# Altium footprint library TE USB-C 2129691-1.PCBLIB: 1 footprints
Each footprint in its own frame and in the unit in brackets; x right, y up, seen from the top. Pads: shape width x height; smd on the part's side, far side on the other; paste and mask are expansions set on the pad; w line width, h text height; cw(c..) or ccw(c..) is an arc to the next point about the centre after c.
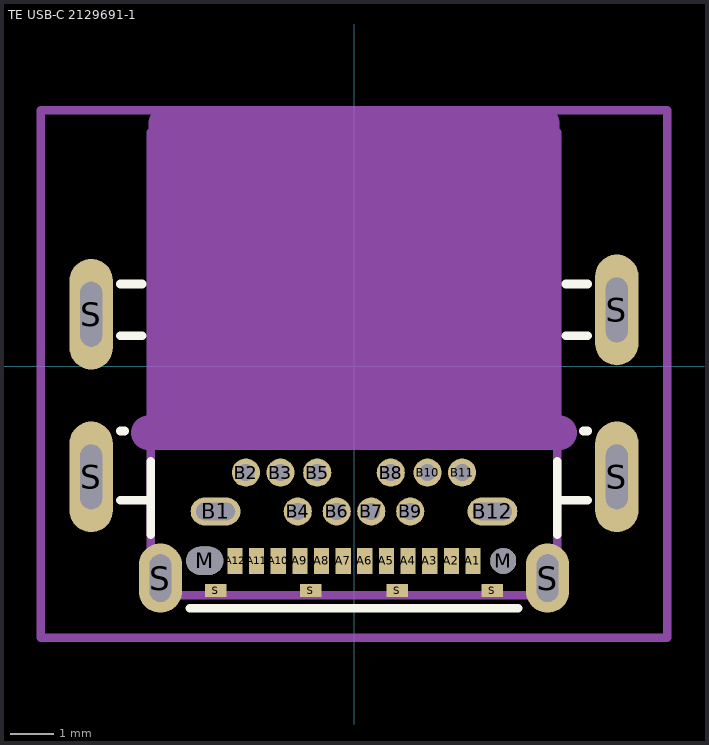
[diagram p0: the footprint, top view; thin cyan lines are the x and y axes]

## TE USB-C 2129691-1 [mm]
height 2.27
pads (36):
  rect 0.35x0.6 smd: A1(2.75,-4.5) A2(2.25,-4.5) A3(1.75,-4.5) A4(1.25,-4.5) A5(0.75,-4.5) A6(0.25,-4.5) A7(-0.25,-4.5) A8(-0.75,-4.5) A9(-1.25,-4.5) A10(-1.75,-4.5) A11(-2.25,-4.5) A12(-2.75,-4.5)
  oval 1.15x0.65 hole 0.4 slot 0.9 at 0 deg: B1(-3.2,-3.36) B12(3.2,-3.36)
  round 0.65 hole 0.4: B2(-2.5,-2.46) B3(-1.7,-2.46) B4(-1.3,-3.36) B5(-0.85,-2.46) B6(-0.4,-3.36) B7(0.4,-3.36) B8(0.85,-2.46) B9(1.3,-3.36) B10(1.7,-2.46) B11(2.5,-2.46)
  oval 0.85x0.65 hole 0.65 slot 0.85 at 0 deg unplated mask+0.102: M(-3.45,-4.5)
  round 0.6 hole 0.6 unplated mask+0.102: M(3.45,-4.5)
  oval 1x2.56 hole 0.5 slot 1.5 at 90 deg: S(-6.075,-2.56) S(-6.075,1.2) S(6.075,-2.56) S(6.075,1.3)
  oval 1x1.6 hole 0.5 slot 1.1 at 90 deg: S(-4.475,-4.9) S(4.475,-4.9)
  rect 0.5x0.3 smd: S(-3.2,-5.19) S(-1,-5.19) S(1,-5.19) S(3.2,-5.19)
Top Overlay:
  lines w0.2: -5.4,-3.1 -4.7,-3.1 ; -5.4,-1.5 -5.3,-1.5 ; -5.4,0.7 -4.9,0.7 ; -5.4,1.9 -4.9,1.9 ; -4.7,-3.9 -4.7,-2.2 ; -3.8,-5.6 0,-5.6 3.8,-5.6 ; 4.7,-3.9 4.7,-2.2 ; 4.7,-3.1 5.4,-3.1 ; 4.9,0.7 5.4,0.7 ; 4.9,1.9 5.4,1.9 ; 5.3,-1.5 5.4,-1.5
Mechanical 1:
  lines w0.2: -4.7,-5.3 -4.7,5.4 0,5.4 4.7,5.4 4.7,-5.3 0,-5.3 -4.7,-5.3
Mechanical 15:
  lines w0.2: -0.635,0 0.635,0 ; 0,-0.635 0,0.635 ; -7.239,-6.278 -7.239,5.914 0,5.914 7.239,5.914 7.239,-6.278 0,-6.278 -7.239,-6.278
Milling:
  region: 4.35,5.61 -4.35,5.61 -4.35,-1.54 4.35,-1.54
  lines w0.8: -4.75,-1.54 4.75,-1.54 ; -4.35,-1.54 -4.35,5.61 0,5.61 4.35,5.61 4.35,-1.54
3D body "TE USB 2129691-1.STEP": height 2.27, standoff -1.07, extent -6.175,-5.3 6.175,5.4